# Altium footprint library PcbLib1.PcbLib: 16 footprints
Each footprint in its own frame and in the unit in brackets; x right, y up, seen from the top. Pads: shape width x height; smd on the part's side, far side on the other; paste and mask are expansions set on the pad; w line width, h text height; cw(c..) or ccw(c..) is an arc to the next point about the centre after c.
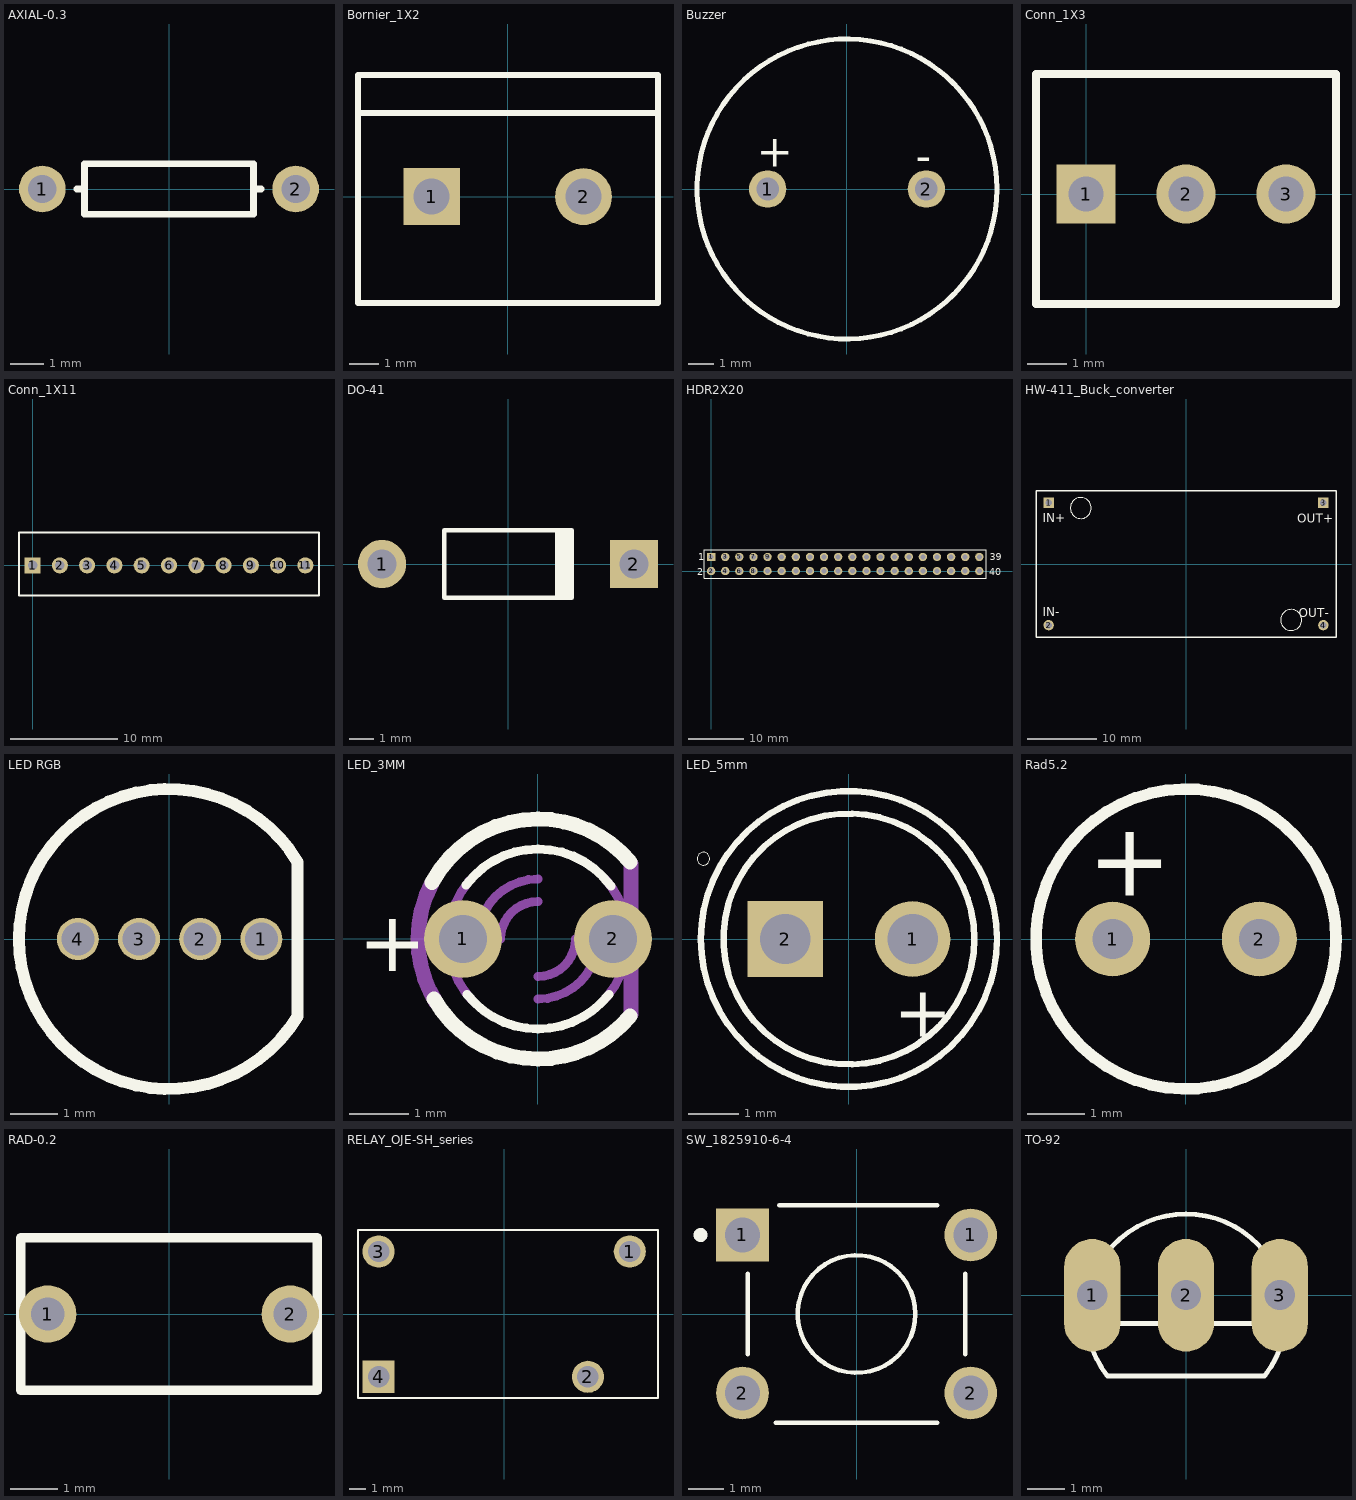
[diagram p0: the footprints below, top view; thin cyan lines are the x and y axes]

## AXIAL-0.3 [mm] "Axial Device, Thru-Hole; 2 Leads; 0.3 in Pin Spacing"
height 1.524
pads (2):
  round 1.4 hole 0.85: 1(-3.81,0) 2(3.81,0)
Top Overlay:
  lines w0.2: -2.769,0 -2.54,0 ; 2.769,0 2.54,0 ; 2.54,0 2.54,-0.762 -2.54,-0.762 -2.54,0.762 2.54,0.762 2.54,0

## Bornier_1X2 [mm] "Connector; Header; 3 Position"
pads (2):
  rect 1.9x1.9 hole 1.2: 1(-2.54,0)
  round 1.9 hole 1.2: 2(2.54,0)
Top Overlay:
  lines w0.2: -4.953,2.794 4.953,2.794 ; 4.996,4.064 -5.004,4.064 -5.004,-3.556 5.004,-3.556 ; 5.029,-3.556 5.029,4.064

## Buzzer [mm] "Buzzer 10.2 (Dia.)"
height 8.2
pads (2):
  round 1.5 hole 0.9: 1(-3.175,0) 2(3.175,0)
Top Overlay:
  circle w0.2: c0,0 r6
  text "+" at -3.607,0.881 h1.27
  text "-" at 2.743,0.711 h1.27

## Conn_1X3 [mm] "Connector; Header; 3 Position"
pads (3):
  rect 1.5x1.5 hole 0.9: 1(0,0)
  round 1.5 hole 0.9: 2(2.54,0) 3(5.08,0)
Top Overlay:
  lines w0.2: -1.27,-2.794 6.35,-2.794 6.35,3.048 -1.27,3.048 -1.27,-2.794

## Conn_1X11 [mm] "Connector; Header; 3 Position"
pads (11):
  rect 1.5x1.5 hole 0.9: 1(0,0)
  round 1.5 hole 0.9: 2(2.54,0) 3(5.08,0) 4(7.62,0) 5(10.16,0) 6(12.7,0) 7(15.24,0) 8(17.78,0) 9(20.32,0) 10(22.86,0) 11(25.4,0)
Top Overlay:
  lines w0.2: -1.27,-2.794 -1.27,3.048 26.67,3.048 26.67,-2.794 -1.27,-2.794

## DO-41 [mm] "Diode, Axial; Body 5.2 x 2.7 mm (LxDia. max), Lead Dia. 0.86 mm (max)"
height 2.8
pads (2):
  round 2 hole 1.2: 1(-5.23,0)
  rect 2x2 hole 1.2: 2(5.23,0)
Top Overlay:
  rectangle: 1.95,-1.4 2.75,1.4
  lines w0.2: 2.65,-1.4 -2.65,-1.4 -2.65,1.4 2.65,1.4

## HDR2X20 [mm] "Connector; Header; 20x2 Position"
pads (40):
  rect 1.5x1.5 hole 0.9: 1(0,2.54)
  round 1.5 hole 0.9: 2(0,0) 3(2.54,2.54) 4(2.54,0) 5(5.08,2.54) 6(5.08,0) 7(7.62,2.54) 8(7.62,0) 9(10.16,2.54) 10(10.16,0) 11(12.7,2.54) 12(12.7,0) 13(15.24,2.54) 14(15.24,0) 15(17.78,2.54) 16(17.78,0) 17(20.32,2.54) 18(20.32,0) 19(22.86,2.54) 20(22.86,0) 21(25.4,2.54) 22(25.4,0) 23(27.94,2.54) 24(27.94,0) 25(30.48,2.54) 26(30.48,0) 27(33.02,2.54) 28(33.02,0) 29(35.56,2.54) 30(35.56,0) 31(38.1,2.54) 32(38.1,0) 33(40.64,2.54) 34(40.64,0) 35(43.18,2.54) 36(43.18,0) 37(45.72,2.54) 38(45.72,0) 39(48.26,2.54) 40(48.26,0)
Top Overlay:
  lines w0.2: -1.27,-1.27 -1.27,3.81 49.53,3.81 49.53,-1.27 -1.27,-1.27
  text "1" at -2.286,1.905 h1.27
  text "39" at 50.165,1.905 h1.27
  text "40" at 50.038,-0.762 h1.27
  text "2" at -2.54,-0.762 h1.27

## HW-411_Buck_converter [mm] "HW-411 Buck converter Board"
pads (4):
  rect 1.5x1.5 hole 0.9: 1(-19.939,8.89) 3(19.939,8.89)
  round 1.5 hole 0.9: 2(-19.939,-8.89) 4(19.939,-8.89)
Top Overlay:
  circle w0.127: c15.278,-8.128 r1.524
  circle w0.127: c-15.278,8.128 r1.524
  lines w0.2: -21.78,-10.668 21.78,-10.668 21.78,10.668 -21.78,10.668 -21.78,-10.668
  text "IN+" at -20.828,6.096 h1.27
  text "IN-" at -20.828,-7.62 h1.27
  text "OUT-" at 16.383,-7.747 h1.27
  text "OUT+" at 16.129,5.969 h1.27

## LED RGB [mil] "5mm RGB LED"
pads (4):
  round 35 hole 27.56: 1(77,0) 2(26,0) 3(-25,0) 4(-76,0)
Top Overlay:
  lines w10: 107.07,-64.51 cw(c0,0) 107.19,64.31 107.19,-64.39

## LED_3MM [mil]
pads (2):
  round 52 hole 32: 1(-50,0) 2(50,0)
Top Overlay:
  lines w6: -47.92,36.11 cw(c0,0) 0,60 cw(c0,0) 48.54,35.27 ; -47.28,-36.94 ccw(c0,0) 0,-60 ccw(c0,0) 47.28,-36.94
  lines w10: -70.63,37.56 cw(c0,0) 0,80 cw(c0,0) 61.28,51.42 ; -69.28,-40 ccw(c0,0) 0,-80 ccw(c0,0) 61.29,-51.42
  text "+" at -120,-21.66 h40
Mechanical 13:
  lines w6: -45.96,38.57 ccw(c0,0) -60,0 ccw(c0,0) -44.59,-40.15 ; -40,0 cw(c0,0) 0,40 ; -25,0 cw(c0,0) 0,25 ; 0,-40 ccw(c0,0) 40,0 ; 0,-25 ccw(c0,0) 25,0 ; 45.28,39.36 cw(c0,0) 60,0 cw(c0,0) 45.96,-38.57
  lines w10: -70.64,37.56 ccw(c0,0) -80,0 ccw(c0,0) -67.84,-42.4 ; 62,-50 62,50

## LED_5mm [mm]
pads (2):
  round 1.508 hole 1: 1(1.27,0)
  rect 1.508x1.508 hole 1: 2(-1.27,0)
Top Overlay:
  circle w0.127: c0,0 r2.95
  circle w0.127: c0,0 r2.5
  circle w0: c-2.9,1.6 r0.127
  text "+" at 0.889,-1.947 h1.02

## Rad5.2 [mm] "Capacitor (Radial); 2 Leads; 5.2 (Dia.)"
height 8.2
pads (2):
  round 1.3 hole 0.7: 1(-1.27,0) 2(1.27,0)
Top Overlay:
  circle w0.2: c0,0 r2.6
  text "+" at -1.702,0.754 h1.27

## RAD-0.2 [mm] "Radial Cap, Thru-Hole; 2 Leads; 0.2 in Pin Spacing"
pads (2):
  round 1.2 hole 0.7: 1(-2.54,0) 2(2.54,0)
Top Overlay:
  lines w0.2: -3.1,-1.6 -3.1,1.6 3.1,1.6 3.1,-1.6 -3.1,-1.6

## RELAY_OJE-SH_series [mm] "Relay_SPST"
pads (4):
  round 1.95 hole 1.3: 1(7.62,3.8) 2(5.08,-3.8) 3(-7.62,3.8)
  rect 1.95x1.95 hole 1.3: 4(-7.62,-3.8)
Top Overlay:
  lines w0.127: -8.87,-5.08 -8.87,5.1 9.33,5.1 9.33,-5.08 -8.87,-5.08

## SW_1825910-6-4 [mm]
pads (4):
  rect 1.498x1.498 hole 0.99: 1(-3.25,2.25)
  round 1.498 hole 0.99: 1(3.25,2.25) 2(-3.25,-2.25) 2(3.25,-2.25)
Top Overlay:
  circle w0.2: c-4.445,2.25 r0.1
  circle w0.127: c0,0 r1.675
  lines w0.127: -3.1,-1.15 -3.1,1.15 ; -2.3,-3.1 2.3,-3.1 ; -2.2,3.1 2.3,3.1 ; 3.1,-1.15 3.1,1.15

## TO-92 [mm]
pads (3):
  oval 1.5x3 hole 0.8: 1(-2.5,0) 2(0,0) 3(2.5,0)
Top Overlay:
  lines w0.127: -2.655,-0.754 2.655,-0.754 ; -2.102,-2.142 cw(c0,-0.5) -2.657,-0.732 cw(c0,-0.5) -0.78,2.051 cw(c0,-0.5) 0.78,2.051 ; -2.094,-2.151 2.094,-2.151 ; 0.78,2.05 cw(c0,-0.5) 2.102,-2.142